# EAGLE library part CN1J4 (library radish)
CN1J4 series 4-resistor arrays from KOA Steers Example part: http://www.mouser.com/Search/ProductDetail.aspx?R=660-CN1J4TTD103J
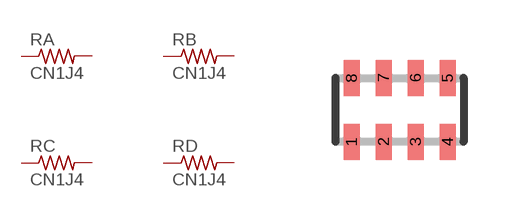
[diagram p10: symbol with the pads of CN1J_NETWORK; footprint CN1J_NETWORK]

Designator prefix R; gates A=R-US B=R-US C=R-US D=R-US

## CN1J4  [CN1J_NETWORK]
1  A:1  pas
2  B:1  pas
3  C:1  pas
4  D:1  pas
5  D:2  pas
6  C:2  pas
7  B:2  pas
8  A:2  pas

## Footprint CN1J_NETWORK (pad centres in mm)
smd 0.4 x 0.9: 1 -1.2,-0.8; 2 -0.4,-0.8; 3 0.4,-0.8; 4 1.2,-0.8; 5 1.2,0.8; 6 0.4,0.8; 7 -0.4,0.8; 8 -1.2,0.8